# EAGLE library part ITG3200 (library aerial)
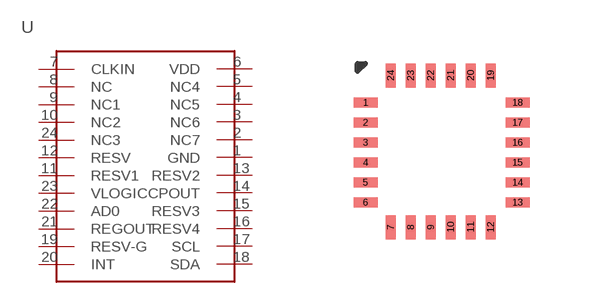
[diagram p0: symbol with the pads of QFN-ITG3200; footprint QFN-ITG3200]

Designator prefix U

## ITG3200  [QFN-ITG3200]
1  GND
2  NC7
3  NC6
4  NC5
5  NC4
6  VDD
7  CLKIN
8  NC
9  NC1
10  NC2
11  RESV1
12  RESV
13  RESV2
14  CPOUT
15  RESV3
16  RESV4
17  SCL
18  SDA
19  RESV-G
20  INT
21  REGOUT
22  AD0
23  VLOGIC
24  NC3

## Footprint QFN-ITG3200 (pad centres in mm)
smd 0.6 x 0.25: 1 0.1,3.225; 2 0.1,2.725; 3 0.1,2.225; 4 0.1,1.725; 5 0.1,1.225; 6 0.1,0.725; 13 3.9,0.725; 14 3.9,1.225; 15 3.9,1.725; 16 3.9,2.225; 17 3.9,2.725; 18 3.9,3.225
smd 0.25 x 0.6: 7 0.725,0.1; 8 1.225,0.1; 9 1.725,0.1; 10 2.225,0.1; 11 2.725,0.1; 12 3.225,0.1; 19 3.225,3.9; 20 2.725,3.9; 21 2.225,3.9; 22 1.725,3.9; 23 1.225,3.9; 24 0.725,3.9